# EAGLE library part STSPIN220 (library STSPIN220)
The STSPIN220 is a stepper motor driver which integrates, in a small QFN 3 x 3 mm package, both control logic and a low RDS(on) power stage. The integrated controller implements PWM current control with fixed OFF time and a microstepping resolution up to 1/256th of a step. The device is designed to operate in batterypowered scenarios and can be forced into a zeroconsumption state, allowing a significant increase in battery life. The device offers a complete set of protection features including overcurrent, overtemperature and short-circuit protection.
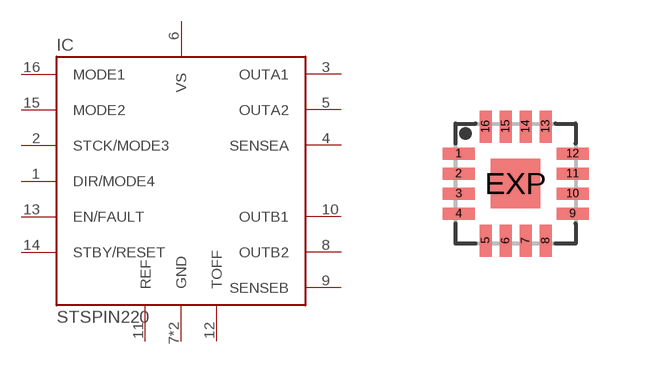
[diagram p1: symbol with the pads of QFN16; footprint QFN16]

Designator prefix IC

## STSPIN220  [QFN16]
1  DIR/MODE4
2  STCK/MODE3
3  OUTA1
4  SENSEA
5  OUTA2
6  VS
7  GND
8  OUTB2
9  SENSEB
10  OUTB1
11  REF
12  TOFF
13  EN/FAULT
14  STBY/RESET
15  MODE2
16  MODE1
EXP  GND

## Footprint QFN16 (pad centres in mm)
QFN16 3x3mm Based on MAXIM landpattern drawings. Applies for packages: T1633-2, T1633+2, T1633-4, T1633+4, T1633-4C, T1633+4C, T1633-5, T1633-5C, T1633-7C
smd 0.8 x 0.3: 1 -1.425,0.75; 2 -1.425,0.25; 3 -1.425,-0.25; 4 -1.425,-0.75; 9 1.425,-0.75; 10 1.425,-0.25; 11 1.425,0.25; 12 1.425,0.75
smd 0.3 x 0.8: 5 -0.75,-1.425; 6 -0.25,-1.425; 7 0.25,-1.425; 8 0.75,-1.425; 13 0.75,1.425; 14 0.25,1.425; 15 -0.25,1.425; 16 -0.75,1.425
smd 1.23 x 1.23: EXP 0,0